# EAGLE library part TPS63000 (library Eric Navarrete Custom Parts Feb 2019)
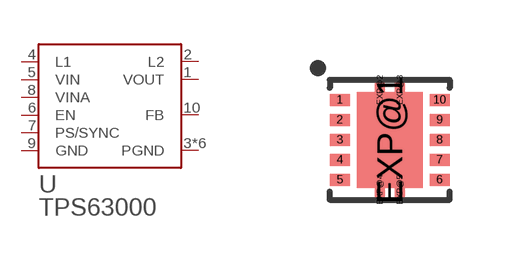
[diagram p13: symbol with the pads of VSON-10(2); footprint VSON-10(2)]

Designator prefix U

## TPS63000VSON  [VSON-10(2)]
1  VOUT
2  L2
3  PGND
4  L1
5  VIN
6  EN
7  PS/SYNC
8  VINA
9  GND
10  FB
EXP@1  PGND
EXP@2  PGND
EXP@3  PGND
EXP@4  PGND
EXP@5  PGND

## Footprint VSON-10(2) (pad centres in mm)
smd 0.5 x 0.3: 1 -1.25,1; 2 -1.25,0.5; 3 -1.25,0; 4 -1.25,-0.5; 5 -1.25,-1; 6 1.25,-1; 7 1.25,-0.5; 8 1.25,0; 9 1.25,0.5; 10 1.25,1
smd 1.65 x 2.4: EXP@1 0,0
smd 0.25 x 0.5: EXP@2 -0.25,1.25; EXP@3 0.25,1.25; EXP@4 -0.25,-1.25; EXP@5 0.25,-1.25